# Altium schematic symbol library voltageconverter.SchLib: 6 symbols
Pins are listed as number, name and electrical type; pins without a type are passive.

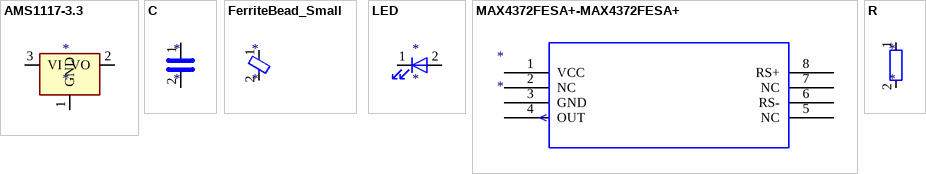
[diagram p0: symbols AMS1117-3.3 to R]

## AMS1117-3.3
designator *
pins: 1 GND, 2 VO, 3 VI

## C
designator *
pins: 1, 2

## FerriteBead_Small
designator *
pins: 1, 2

## LED
designator *
pins: 1 K, 2 A

## MAX4372FESA+-MAX4372FESA+
designator *
pins: 1 VCC, 2 NC, 3 GND, 4 OUT, 5 NC, 6 RS-, 7 NC, 8 RS+

## R
designator *
pins: 1, 2